# EAGLE library part CD74HC123 (library ORBiT-IC-TI)
CD74*123 High Speed CMOS Logic Dual Retriggerable Monostable Multivibrators with Reset The ’HC123, ’HCT123, CD74HC423 and CD74HCT423 are dual monostable multivibrators with resets. They are all retriggerable and differ only in that the 123 types can be triggered by a negative to positive reset pulse; whereas the 423 types do not have this feature. An external resistor (RX) and an external capacitor (CX) control the timing and the accuracy for the circuit. Adjustment of Rx and CX provides a wide range of output pulse widths from the Q and Q\ terminals. Pulse triggering on the A\ and B inputs occur at a particular voltage level and is not related to the rise and fall times of the trigger pulses. Once triggered, the output pulse width may be extended by retriggering inputs A\ and B. The output pulse can be terminated by a LOW level on the Reset (R) pin. Trailing edge triggering (A)\ and leading edge triggering (B) inputs are provided for triggering from either edge of the input pulse. If either Mono is not used each input on the unused device (A\, B, and R\) must be terminated high or low. The minimum value of external resistance, Rx is typically 5kΩ. The minimum value external capacitance, CX, is 0pF. The calculation for the pulse width is tW = 0.45 RXCX at VCC = 5V. Features: Overriding Reset Terminates Output Pulse Triggering From the Leading or Trailing Edge Q and Q\ Buffered Outputs Separate Resets Wide Range of Output-Pulse Widths Schmitt Trigger on Both A\ and B Inputs Fanout (Over Temperature Range) Standard Outputs . . . . . . . . . . . . . . . 10 LSTTL Loads Bus Driver Outputs . . . . . . . . . . . . . 15 LSTTL Loads Wide Operating Temperature Range . . . –55°C to 125°C Balanced Propagation Delay and Transition Times Significant Power Reduction Compared to LSTTL Logic ICs HC Types 2V to 6V Operation High Noise Immunity: NIL = 30%, NIH = 30% of VCC at VCC = 5V HCT Types 4.5V to 5.5V Operation Direct LSTTL Input Logic Compatibility, VIL = 0.8V (Max), VIH = 2V (Min) CMOS Input Compatibility, Il ≤ 1µA at VOL, VOH Technical data: High Speed CMOS Logic Dual Retriggerable Monostable Multivibrators with Reset <http://www.ti.com/product/CD74HC123>
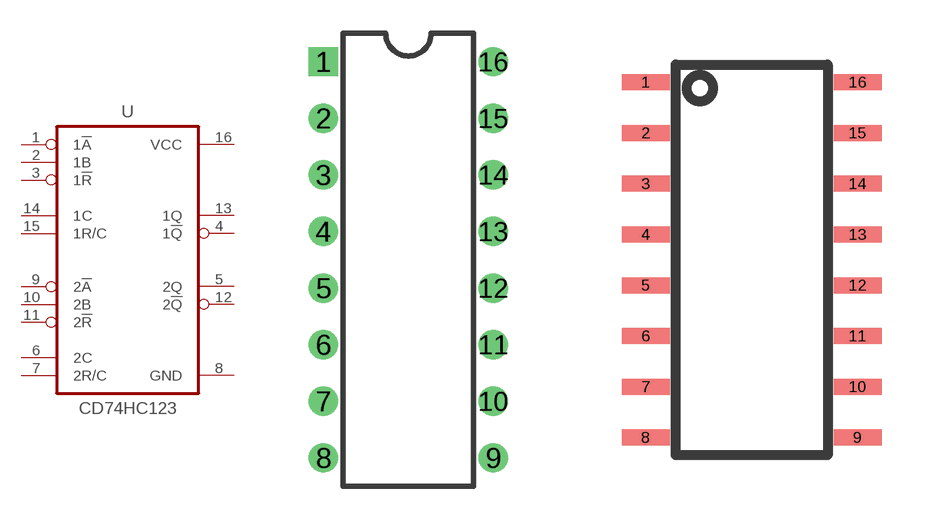
[diagram p7: symbol with the pads of DIP16; footprints DIP16, SO16]

Designator prefix U

## CD74HC123E (MF: Texas Instruments; MPN: CD74HC123E; PN_DIGIKEY: 296-9171-5-ND; PN_MOUSER: 595-CD74HC123E)  [DIP16]
1  1!A  in
2  1B  in
3  1!R  in
4  1!Q  out
5  2Q  out
6  2C  in
7  2R/C  in
8  GND
9  2!A  in
10  2B  in
11  2!R  in
12  2!Q  out
13  1Q  out
14  1C  in
15  1R/C  in
16  VCC

## CD74HC123M (MF: Texas Instruments; MPN: CD74HC123M; PN_DIGIKEY: 296-9172-5-ND; PN_MOUSER: 595-CD74HC123M)  [SO16]
Pads as for DIP16

## CD74HC123PW (MF: Texas Instruments; MPN: CD74HC123PW; PN_DIGIKEY: 296-25971-5-ND; PN_MOUSER: 595-CD74HC123PW)  [TSSOP16]
Pads as for DIP16

## Footprint DIP16 (pad centres in mm)
Dual Inline Package 16-pin JEDEC MS-001
drill 0.813 square: 1 -3.81,8.89
drill 0.813: 2 -3.81,6.35; 3 -3.81,3.81; 4 -3.81,1.27; 5 -3.81,-1.27; 6 -3.81,-3.81; 7 -3.81,-6.35; 8 -3.81,-8.89; 9 3.81,-8.89; 10 3.81,-6.35; 11 3.81,-3.81; 12 3.81,-1.27; 13 3.81,1.27; 14 3.81,3.81; 15 3.81,6.35; 16 3.81,8.89

## Footprint SO16 (pad centres in mm)
Plastic Small-Outline Package SO-16 JEDEC MS-012 AC
smd 1.2 x 0.4: 1 -2.65,4.445; 2 -2.65,3.175; 3 -2.65,1.905; 4 -2.65,0.635; 5 -2.65,-0.635; 6 -2.65,-1.905; 7 -2.65,-3.175; 8 -2.65,-4.445; 9 2.65,-4.445; 10 2.65,-3.175; 11 2.65,-1.905; 12 2.65,-0.635; 13 2.65,0.635; 14 2.65,1.905; 15 2.65,3.175; 16 2.65,4.445

## Footprint TSSOP16 (pad centres in mm)
Thin Shrink Small Outline Plastic, 16 pin JEDEC MO-153
smd 0.991 x 0.305: 1 -2.918,2.275; 2 -2.918,1.625; 3 -2.918,0.975; 4 -2.918,0.325; 5 -2.918,-0.325; 6 -2.918,-0.975; 7 -2.918,-1.625; 8 -2.918,-2.275; 9 2.918,-2.275; 10 2.918,-1.625; 11 2.918,-0.975; 12 2.918,-0.325; 13 2.918,0.325; 14 2.918,0.975; 15 2.918,1.625; 16 2.918,2.275